# Altium schematic symbol library 74LVC1G74DP,125.SchLib: 1 symbol
Pins are listed as number, name and electrical type; pins without a type are passive.

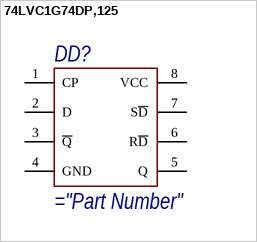
[diagram p0: symbol 74LVC1G74DP,125]

## 74LVC1G74DP,125
designator DD?
Flip Flop 1 Element D-Type 1 Bit Positive Edge 8-TSSOP, 8-MSOP (0.118, 3.00mm Width); MF: Nexperia USA Inc.; MP: 74LVC1G74DP,125; Package: TSSOP-8 Nexperia USA Inc.; Price: None; Check_prices: https://www.snapeda.com/parts/74LVC1G74DP,125/Nexperia/view-part/?ref=eda; Value: *; SnapEDA_Link: https://www.snapeda.com/parts/74LVC1G74DP,125/Nexperia/view-part/?ref=snap; Availability: In Stock; Purchase-URL: https://pricing.snapeda.com/search?q=74LVC1G74DP,125&ref=eda
footprint SOP65P400X110-8N
pins: 1 CP, 2 D, 3 ~{Q}, 4 GND, 5 Q, 6 R~{D}, 7 S~{D}, 8 VCC